# Altium schematic symbol library MOLEX_3.SchLib: 1 symbol
Pins are listed as number, name and electrical type; pins without a type are passive.

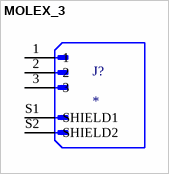
[diagram p0: symbol MOLEX_3]

## MOLEX_3
designator J?
Connector Header Surface Mount 3 position 0.049 (1.25mm); MP: 533980371; MF: Molex; Purchase-URL: https://pricing.snapeda.com/search/part/533980371/?ref=eda; Package: None; Value: *; SnapEDA_Link: https://www.snapeda.com/parts/533980371/Molex/view-part/4544516/?ref=snap; Availability: In Stock; Price: None; Check_prices: https://www.snapeda.com/parts/533980371/Molex/view-part/4544516/?ref=eda
footprint MOLEX_533980371
pins: 1, 2, 3, S1 SHIELD1, S2 SHIELD2